# Altium schematic symbol library Led RGB FC-B1010RGBT-HG.SchLib: 1 symbol
Pins are listed as number, name and electrical type; pins without a type are passive.

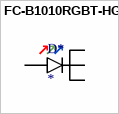
[diagram p0: symbol FC-B1010RGBT-HG]

## FC-B1010RGBT-HG
designator D*
RGB SMD,1x1x0.85mm Light Emitting Diodes (LED) ROHS; ComponentLink1Description: LCSC - Foshan NationStar Optoelectronics FC-B1010RGBT-HG; ComponentLink1URL: https://lcsc.com/product-detail/Light-Emitting-Diodes-LED_Foshan-NationStar-Optoelectronics-FC-B1010RGBT-HG_C158099.html; LCSC Part #: C158099; JLCPCB Part Type: Extended
footprint FC-B1010RGBT-HG
pins: 1, 2, 3, 4